# Altium footprint library IND_SXN(Shun Xiang Nuo Elec)_SMCM7060.PcbLib: 1 footprints
Each footprint in its own frame and in the unit in brackets; x right, y up, seen from the top. Pads: shape width x height; smd on the part's side, far side on the other; paste and mask are expansions set on the pad; w line width, h text height; cw(c..) or ccw(c..) is an arc to the next point about the centre after c.
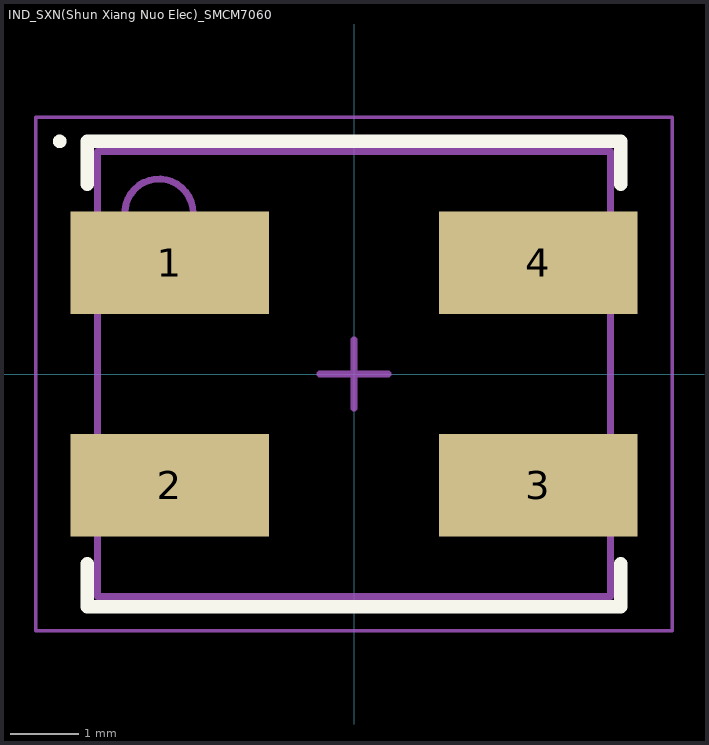
[diagram p0: the footprint, top view; thin cyan lines are the x and y axes]

## IND_SXN(Shun Xiang Nuo Elec)_SMCM7060 [mm] "SMD 7x6mm"
height 3.8
pads (4):
  rect 2.9x1.5 smd: 1(-2.695,1.625) 2(-2.695,-1.625) 3(2.695,-1.625) 4(2.695,1.625)
Top Overlay:
  circle w0.1: c-4.3,3.4 r0.05
  lines w0.2: -3.9,-2.775 -3.9,-3.4 3.9,-3.4 3.9,-2.775 ; -3.9,2.775 -3.9,3.4 3.9,3.4 3.9,2.775
3D Body:
  circle w0.1: c-2.85,2.35 r0.5
  lines w0.1: -3.75,-3.25 3.75,-3.25 3.75,3.25 -3.75,3.25 -3.75,-3.25
Board:
  lines w0.05: -4.65,-3.75 4.65,-3.75 4.65,3.75 -4.65,3.75 -4.65,-3.75
  lines w0.1: -0.5,0 0.5,0 ; 0,-0.5 0,0.5
3D body: height 3.8, standoff 0, extent -3.75,-3.25 3.75,3.25